# Altium footprint library 3PhaseMotorDriver.PcbLib: 53 footprints (part 4 of 4)
Each footprint in its own frame and in the unit in brackets; x right, y up, seen from the top. Pads: shape width x height; smd on the part's side, far side on the other; paste and mask are expansions set on the pad; w line width, h text height; cw(c..) or ccw(c..) is an arc to the next point about the centre after c.
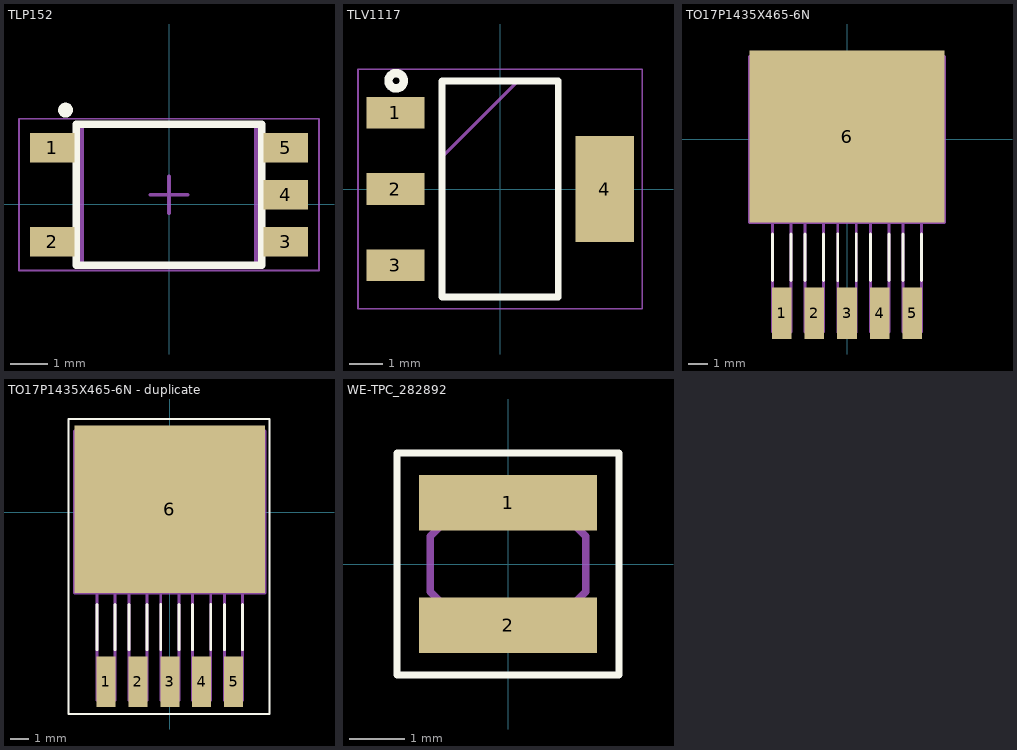
[diagram p3: the footprints below, top view; thin cyan lines are the x and y axes]

## TLP152 [mm] "SOTFL, 5-Leads, Body 3.75x7.20mm, Pitch 1.27mm, IPC Medium Density"
height 2.2
pads (5):
  rect 1.2x0.8 smd: 1(-3.15,1.524) 2(-3.15,-1.016) 3(3.15,-1.016) 4(3.15,0.254) 5(3.15,1.524)
Top Overlay:
  lines w0.2: -2.5,-1.646 -2.5,2.154 2.5,2.154 2.5,-1.646 -2.5,-1.646
  lines w0.25: -2.72,2.538 cw(c-2.794,2.54) -2.72,2.547
Top Assembly:
  lines w0.1: -2.35,-1.646 2.35,-1.646 2.35,2.154 -2.35,2.154 -2.35,-1.646
Top Courtyard:
  lines w0.05: -4.05,-1.796 4.05,-1.796 4.05,2.304 -4.05,2.304 -4.05,-1.796
  lines w0.1: -0.5,0.254 0.5,0.254 ; 0,-0.246 0,0.754
3D body "User Library-TLP-152-1.STEP": height 2.11, standoff 0.01, extent -3.393,-1.651 3.383,2.149

## TLV1117 [mm]
pads (4):
  rect 1.75x0.95 smd: 1(-3.15,2.3) 2(-3.15,0) 3(-3.15,-2.3)
  rect 1.75x3.2 smd: 4(3.15,0)
Top Overlay:
  circle w0.254: c-3.127,3.256 r0.231
  lines w0.2: -1.75,-3.25 1.75,-3.25 1.75,3.25 -1.75,3.25 -1.75,-3.25
Mechanical 13:
  lines w0.1: -1.75,0.95 0.55,3.25 ; -1.75,-3.25 1.75,-3.25 1.75,3.25 -1.75,3.25 -1.75,-3.25
Mechanical 15:
  lines w0.05: -4.275,-3.6 4.275,-3.6 4.275,3.6 -4.275,3.6 -4.275,-3.6
3D body "TLV1117-33IDCYR.stp": height 1.8, standoff 0, extent -3.5,-3.25 3.5,3.25

## TO17P1435X465-6N [mil]
pads (6):
  rect 40x106 smd: 1(-134,-356) 2(-67,-356) 3(0,-356) 4(67,-356) 5(134,-356)
  rect 400x352 smd: 6(0,6)
Top Overlay:
  lines w6: -153,-289 -153,-194 ; -115,-289 -115,-194 ; -86,-289 -86,-194 ; -48,-289 -48,-194 ; -19,-289 -19,-194 ; 19,-289 19,-194 ; 48,-289 48,-194 ; 86,-289 86,-194 ; 115,-289 115,-194 ; 153,-289 153,-194
Mechanical 13:
  lines w6: -200,-170 200,-170 200,170 -200,170 -200,-170 ; -153,-395 -153,-170 -115,-170 -115,-395 -153,-395 ; -86,-395 -86,-170 -48,-170 -48,-395 -86,-395 ; -19,-395 -19,-170 19,-170 19,-395 -19,-395 ; 48,-395 48,-170 86,-170 86,-395 48,-395 ; 115,-395 115,-170 153,-170 153,-395 115,-395
3D body "LM2596SX-12--3DModel-STEP-56544.STEP": height 183.5, standoff -5.5, extent -200.98,-391.77 199.02,173.23

## TO17P1435X465-6N - duplicate [mil]
pads (6):
  rect 40x106 smd: 1(-134,-356) 2(-67,-356) 3(0,-356) 4(67,-356) 5(134,-356)
  rect 400x352 smd: 6(0,6)
Top Overlay:
  lines w3.94: -212.47,-423.79 209.17,-423.79 209.17,195.52 -212.47,195.52 -212.47,-423.79
  lines w6: -153,-289 -153,-194 ; -115,-289 -115,-194 ; -86,-289 -86,-194 ; -48,-289 -48,-194 ; -19,-289 -19,-194 ; 19,-289 19,-194 ; 48,-289 48,-194 ; 86,-289 86,-194 ; 115,-289 115,-194 ; 153,-289 153,-194
Mechanical 13:
  lines w6: -200,-170 -200,170 200,170 200,-170 -200,-170 ; -153,-395 -115,-395 -115,-170 -153,-170 -153,-395 ; -86,-395 -48,-395 -48,-170 -86,-170 -86,-395 ; -19,-395 19,-395 19,-170 -19,-170 -19,-395 ; 48,-395 86,-395 86,-170 48,-170 48,-395 ; 115,-395 153,-395 153,-170 115,-170 115,-395
3D body "LM2596SX-12--3DModel-STEP-56544.STEP": height 183.5, standoff -5.5, extent -200.98,-391.77 199.02,173.23

## WE-TPC_282892 [mm]
pads (2):
  rect 3.2x1 smd: 1(0,1.1) 2(0,-1.1)
Top Overlay:
  lines w0.127: -2,-2 -2,2 2,2 2,-2 -2,-2
Mechanical 13:
  lines w0.127: -1.4,-0.5 -0.5,-1.4 0.5,-1.4 1.4,-0.5 1.4,0.5 0.5,1.4 -0.5,1.4 -1.4,0.5 -1.4,-0.5
3D body "User Library-SDR0302.STEP": height 3, standoff 0, extent -1.575,-1.5 1.409,1.5